# Altium schematic symbol library pwr_switching_buck_acdc.SchLib: 8 symbols
Pins are listed as number, name and electrical type; pins without a type are passive.

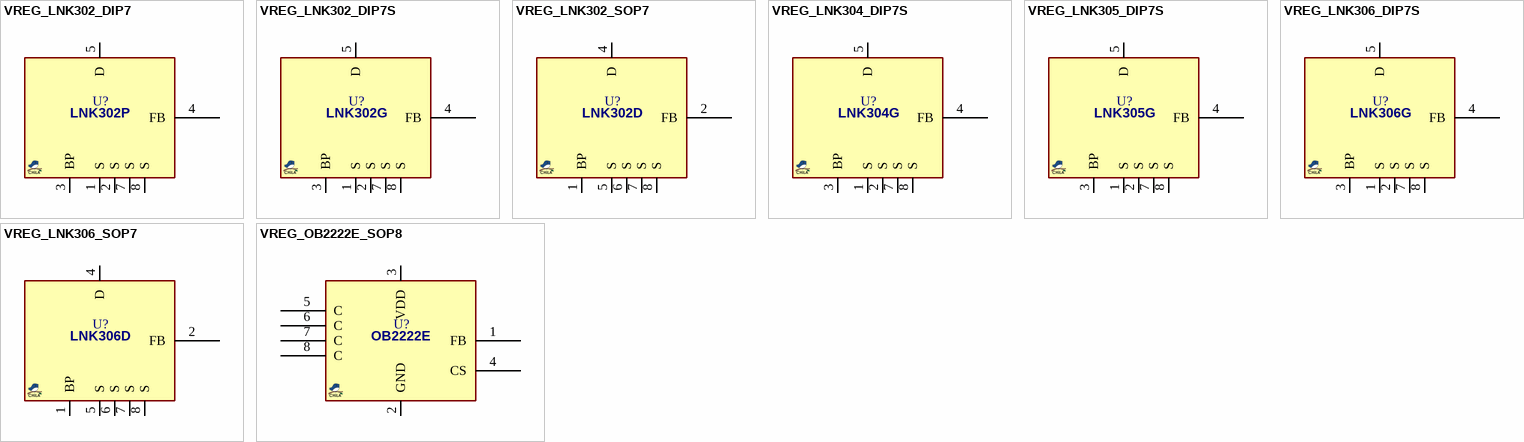
[diagram p0: symbols VREG_LNK302_DIP7 to VREG_OB2222E_SOP8]

## VREG_LNK302_DIP7
designator U?, comment LNK302  (value not drawn)
REG, Switching, Buck, Offline; MANF: Power Integrations; MANF_P#: LNK302P; PARAM2: 195~265/85~265VacIN; PARAM: 80mA, 66KHz, -40~150°C; ASSEMBLY: ASSEMBLY; PRICE: 8t@Paya; VALUE: LNK302; PACKAGE: DIP-7
footprint DIP_7_N6 (DIP, pitch 2.54mm, without pin 6)
pins: 1 S, 2 S, 3 BP, 4 FB, 5 D, 7 S, 8 S

## VREG_LNK302_DIP7S
designator U?, comment LNK302  (value not drawn)
REG, Switching, Buck, Offline; MANF: Power Integrations; MANF_P#: LNK302G; PARAM2: 195~265/85~265VacIN; PARAM: 80mA, 66KHz, -40~150°C; ASSEMBLY: ASSEMBLY; PRICE: 8t@Paya; VALUE: LNK302; PACKAGE: DIP-7SMD
footprint DIP_7SMD_N6 (DIP8 SMD Package, without pin 6)
pins: 1 S, 2 S, 3 BP, 4 FB, 5 D, 7 S, 8 S

## VREG_LNK302_SOP7
designator U?, comment LNK302  (value not drawn)
REG, Switching, Buck, Offline; MANF: Power Integrations; MANF_P#: LNK302D; PARAM2: 195~265/85~265VacIN; PARAM: 80mA, 66KHz, -40~150°C; ASSEMBLY: ASSEMBLY; PRICE: 8t@Paya; VALUE: LNK302; PACKAGE: SOP-7
footprint SO_7_N3 (SOP-8 without pin3, 5x3.9mm body 1.27mm pitch, SOT33-5)
pins: 1 BP, 2 FB, 4 D, 5 S, 6 S, 7 S, 8 S

## VREG_LNK304_DIP7S
designator U?, comment LNK304  (value not drawn)
REG, Switching, Buck, Offline; MANF: Power Integrations; MANF_P#: LNK304GN; PARAM2: 195~265/85~265VacIN; PARAM: 170mA, 66KHz, -40~150°C; ASSEMBLY: ASSEMBLY; PRICE: 6t@Paya; VALUE: LNK304; PACKAGE: DIP-7SMD
footprint DIP_7SMD_N6 (DIP8 SMD Package, without pin 6)
pins: 1 S, 2 S, 3 BP, 4 FB, 5 D, 7 S, 8 S
text: LNK304G

## VREG_LNK305_DIP7S
designator U?, comment LNK305  (value not drawn)
REG, Switching, Buck, Offline; MANF: Power Integrations; MANF_P#: LNK305GN; PARAM2: 195~265/85~265VacIN; PARAM: 280mA MDCM, 66KHz, -40~150°C; ASSEMBLY: ASSEMBLY; PRICE: 8t@Paya; VALUE: LNK305; PACKAGE: DIP-7SMD
footprint DIP_7SMD_N6 (DIP8 SMD Package, without pin 6)
pins: 1 S, 2 S, 3 BP, 4 FB, 5 D, 7 S, 8 S
text: LNK305G

## VREG_LNK306_DIP7S
designator U?, comment LNK306  (value not drawn)
REG, Switching, Buck, Offline; MANF: Power Integrations; MANF_P#: LNK306GN; PARAM2: 195~265/85~265VacIN; PARAM: 360mA MDCM, 66KHz, -40~150°C; ASSEMBLY: ASSEMBLY; PRICE: 11t@Paya; VALUE: LNK306; PACKAGE: DIP-7SMD
footprint DIP_7SMD_N6 (DIP8 SMD Package, without pin 6)
pins: 1 S, 2 S, 3 BP, 4 FB, 5 D, 7 S, 8 S
text: LNK306G

## VREG_LNK306_SOP7
designator U?, comment LNK306  (value not drawn)
REG, Switching, Buck, Offline; MANF: Power Integrations; MANF_P#: LNK306D; PARAM2: 195~265/85~265VacIN; PARAM: 360mA MDCM, 66KHz, -40~150°C; ASSEMBLY: ASSEMBLY; PRICE: 11t@Paya; VALUE: LNK306; PACKAGE: SOP-7
footprint SO_7_N3 (SOP-8 without pin3, 5x3.9mm body 1.27mm pitch, SOT33-5)
pins: 1 BP, 2 FB, 4 D, 5 S, 6 S, 7 S, 8 S

## VREG_OB2222E_SOP8
designator U?, comment OB2222E  (value not drawn)
REG, Switching, Buck, Offline; MANF: On-Bright; MANF_P#: OB2222ECPA; PARAM2: 90~264VacIN, 4.5~6Vdd; PARAM: 100mA, 40KHz, -40~85°C; ASSEMBLY: ASSEMBLY; PRICE: 0.1$; VALUE: OB2222E; PACKAGE: SOP-8
footprint SO_8 (SOP-8, 5x3.9mm body 1.27mm pitch, SOT96-1, M08A, S8, SOIC8, VO8, MS-012AA(JEDEC), R-8, 8S2, VOG8)
pins: 1 FB, 2 GND, 3 VDD, 4 CS, 5 C, 6 C, 7 C, 8 C